# Altium schematic symbol library Реле.SchLib: 1 symbol
Pins are listed as number, name and electrical type; pins without a type are passive.

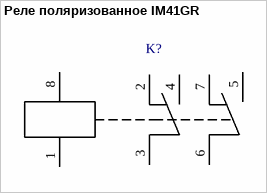
[diagram p0: symbol Реле поляризованное IM41GR]

## Реле поляризованное IM41GR
designator K?, comment IM41GR  (value not drawn)
Uкатушки: 3 В; AC-DC: DC; Pупр(max): 100 мВт; Iкомм: 2 А; UDC: 220 В; Value: IM41GR; Part: *; Alternative part: *
pins: 1, 2, 3, 4, 5, 6, 7, 8